# Altium footprint library ABM8G-25.000MHZ-B4Y-T.PcbLib: 1 footprints
Each footprint in its own frame and in the unit in brackets; x right, y up, seen from the top. Pads: shape width x height; smd on the part's side, far side on the other; paste and mask are expansions set on the pad; w line width, h text height; cw(c..) or ccw(c..) is an arc to the next point about the centre after c.
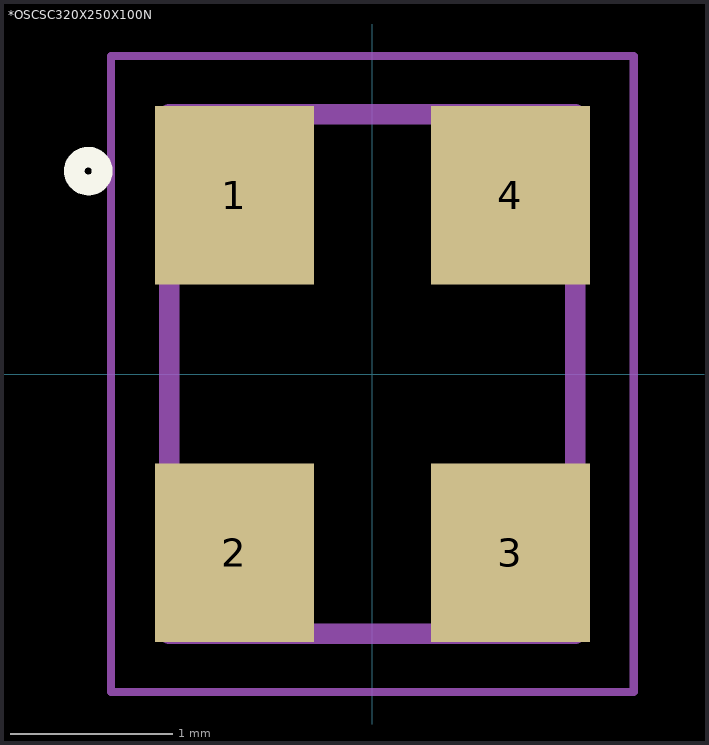
[diagram p0: the footprint, top view; thin cyan lines are the x and y axes]

## *OSCSC320X250X100N [mm]
pads (4):
  rect 0.98x1.1 smd: 1(-0.85,1.1) 2(-0.85,-1.1) 3(0.85,-1.1) 4(0.85,1.1)
Top Overlay:
  circle w0.127: c-1.75,1.25 r0.086
Mechanical 4:
  lines w0.127: -1.25,-1.6 1.25,-1.6 ; -1.25,-1.6 -1.25,1.6 ; -1.25,-1.6 1.25,-1.6 ; -1.25,-1.6 -1.25,1.6 ; -1.25,1.6 1.25,1.6 ; -1.25,1.6 1.25,1.6 ; 1.25,-1.6 1.25,1.6 ; 1.25,-1.6 1.25,1.6
Courtyard Bottom:
  lines w0.05: -1.61,-1.96 1.61,-1.96 1.61,1.96 -1.61,1.96 -1.61,-1.96
3D body: height 0.99, standoff 0, extent -1.6,-1.244 1.6,1.245